# EAGLE library part M50-3600342 (library SamacSys_Parts)
Headers & Wire Housings 03+03 DIL SMT PIN HDR Source: Datasheet <https://cdn.harwin.com/pdfs/M50-360.pdf>
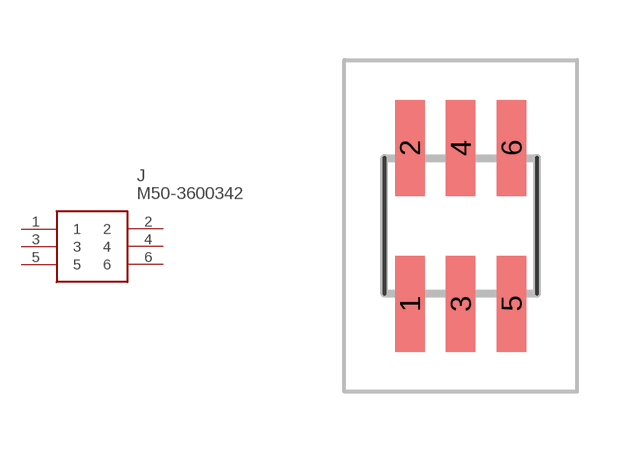
[diagram p8: symbol with the pads of M503600342; footprint M503600342]

Designator prefix J

## M50-3600342 (DESCRIPTION: Headers & Wire Housings 03+03 DIL SMT PIN HDR; HEIGHT: 5.13mm; MANUFACTURER_NAME: Harwin; MANUFACTURER_PART_NUMBER: M50-3600342; MOUSER_PART_NUMBER: 855-M50-3600342; MOUSER_PRICE-STOCK: https://www.mouser.co.uk/ProductDetail/Harwin/M50-3600342?qs=uLfVlVfCHH3O1msIjvLxbQ%3D%3D)  [M503600342]
1  1
2  2
3  3
4  4
5  5
6  6

## Footprint M503600342 (pad centres in mm)
M50-3600342-1
smd 0.74 x 2.4: 1 -1.27,-1.95; 2 -1.27,1.95; 3 0,-1.95; 4 0,1.95; 5 1.27,-1.95; 6 1.27,1.95